# Altium footprint library PCB - LED - KINGBRIGHT APHBM2012SURKZGKC.PcbLib: 1 footprints
Each footprint in its own frame and in the unit in brackets; x right, y up, seen from the top. Pads: shape width x height; smd on the part's side, far side on the other; paste and mask are expansions set on the pad; w line width, h text height; cw(c..) or ccw(c..) is an arc to the next point about the centre after c.
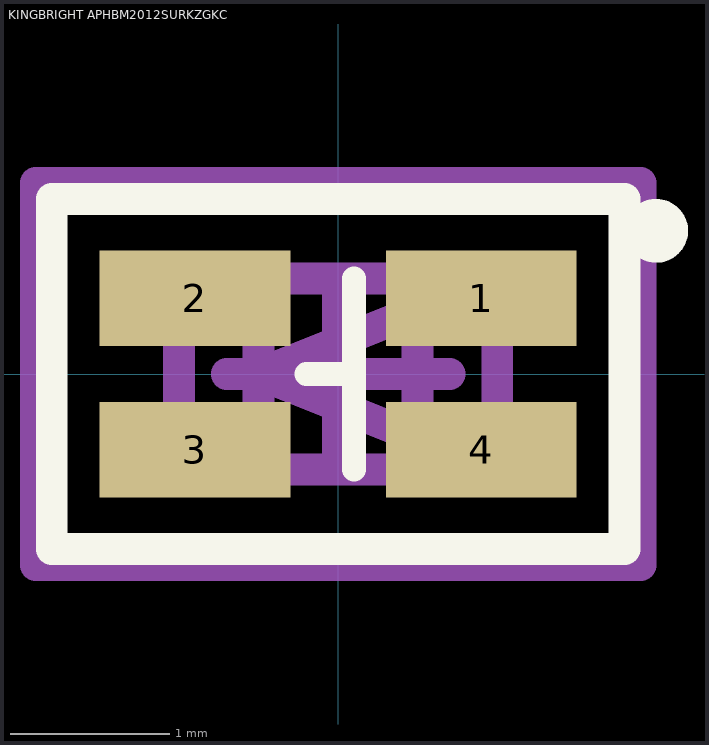
[diagram p0: the footprint, top view; thin cyan lines are the x and y axes]

## KINGBRIGHT APHBM2012SURKZGKC [mm]
height 0.45
pads (4):
  rect 1.2x0.6 smd paste+0: 1(0.9,0.475) 2(-0.9,0.475) 3(-0.9,-0.475) 4(0.9,-0.475)
Top Overlay:
  circle w0.2: c2,0.9 r0.1
  lines w0.15: -0.2,0 0.1,0 ; 0.1,-0.6 0.1,0.6
  lines w0.2: -1.8,-1.1 -1.8,1.1 1.8,1.1 1.8,-1.1 -1.8,-1.1
Top Component Center:
  lines w0.2: -0.5,0 0.5,0 ; 0,-0.5 0,0.5
Top Assembly:
  lines w0.2: -0.7,0 -0.5,0 ; -0.5,-0.4 -0.5,0 ; -0.5,0.4 -0.5,0 ; 0.7,0 0.5,0 ; -0.5,0 0.5,-0.4 0.5,0 ; -0.5,0 0.5,0.4 0.5,0 ; -1,-0.6 1,-0.6 1,0.6 -1,0.6 -1,-0.6
Top Courtyard:
  lines w0.2: -1.9,-1.2 1.9,-1.2 1.9,1.2 -1.9,1.2 -1.9,-1.2
3D body "Kingbright APHBM2012SURKZGKC Base.step": height 0.17, standoff 0, extent -1,-0.625 1,0.625
3D body "Kingbright APHBM2012SURKZGKC Lens.step": height 0.45, standoff 0.15, extent -0.65,-0.625 0.65,0.625